# EAGLE library part SW_DPDT_TA (library wheat)
SWITCH, DPDT, E-SWITCH TA-SERIES
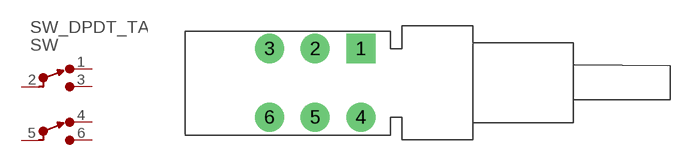
[diagram p0: symbol with the pads of SW_DPDT_TA; footprint SW_DPDT_TA]

Designator prefix SW

## SW_DPDT_TA  [SW_DPDT_TA]
1  NC1  pas
2  C1  pas
3  NO1  pas
4  NC2  pas
5  C2  pas
6  NO2  pas

## Footprint SW_DPDT_TA (pad centres in mm)
SWITCH, DPDT, TA-SERIES E-SWITCH
drill 1.422 pad 2.54 square: 1 -18.6,3
drill 1.422 pad 2.54: 2 -22.6,3; 3 -26.6,3; 4 -18.6,-3; 5 -22.6,-3; 6 -26.6,-3